# EAGLE library part 62401821622 (library WR-WTB)
WR-WTB 2.00 mm Male Dual Row Vertical Shrouded Header w. positive locking Material Properties Insulator Material PA66 Insulator Flammability Rating UL94 V-0 Color White Contact Material Copper Alloy Contact Plating Tin Contact Type Stamped Certification UL Approval E323964 General Information Operating Temperature -25 °C up to +85 °C Compliance RoHS IR 3 A Working Voltage 250 V (AC) Withstanding Voltage 1000 V (AC) Contact Resistance 20 mΩ RISO 1000 MΩ Pitch 2 mm Gender Male Type Vertical Packaging Properties Packaging Tube Details see: www.we-online.com/en/components/products/WTB_2_00_MALE_DUAL_ROW_VERTICAL_SHROUDED_HEADER_W_POSITIVE_LOCKING_6240XX21622 Updated by Ella 2025-07-24 2025 (C) Würth Elektronik
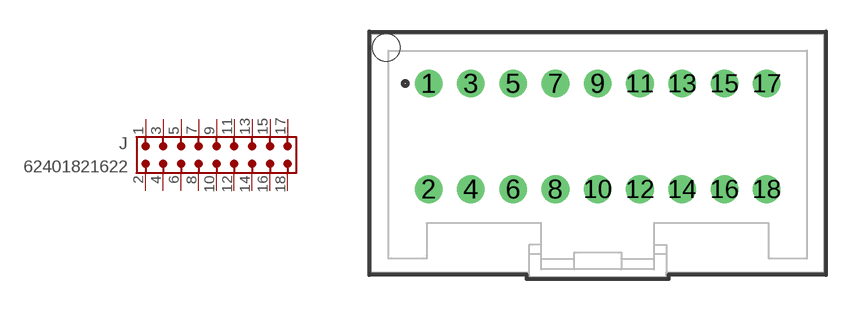
[diagram p133: symbol with the pads of 62401821622; footprint 62401821622]

Designator prefix J

## 62401821622 (CONTACT-RESISTANCE: 20mOhm; DATASHEET: https://www.we-online.com/redexpert/spec/62401821622?ae; GENDER: Male; IR: 3A; L: 21.4mm; MOUNT: THT; PACKAGING: Tube; PART-NUMBER: 62401821622; PCB-CABLE-PANEL: PCB; PINS: 18; PITCH: 2mm; TYPE: Vertical; VALUE: 62401821622; WORKING-VOLTAGE: 250V(AC))  [62401821622]
1  1  pas
2  2  pas
3  3  pas
4  4  pas
5  5  pas
6  6  pas
7  7  pas
8  8  pas
9  9  pas
10  10  pas
11  11  pas
12  12  pas
13  13  pas
14  14  pas
15  15  pas
16  16  pas
17  17  pas
18  18  pas

## Footprint 62401821622 (pad centres in mm)
WR-WTB 2.00 mm Male Dual Row Vertical Shrouded Header w. positive locking,18 Pins
drill 0.8: 1 -8,3.3; 2 -8,-1.7; 3 -6,3.3; 4 -6,-1.7; 5 -4,3.3; 6 -4,-1.7; 7 -2,3.3; 8 -2,-1.7; 9 0,3.3; 10 0,-1.7; 11 2,3.3; 12 2,-1.7; 13 4,3.3; 14 4,-1.7; 15 6,3.3; 16 6,-1.7; 17 8,3.3; 18 8,-1.7
hole 1.3 at -10,5